# EAGLE library part MAB (library omcConnector)
PCB DIN 5 Pin Socket Current Rating: 1A Dielectric Strength: AC 1000V/MIN. R.M.S. Insulator Resistance: 5000MΩ MIN. AT 500V DC Contact Resistance: 8mΩ MAX Operation Temperature: -55°C TO +105°C Datasheet: Reichelt <https://cdn-reichelt.de/documents/datenblatt/C160/DS_MAPBMS5.pdf>
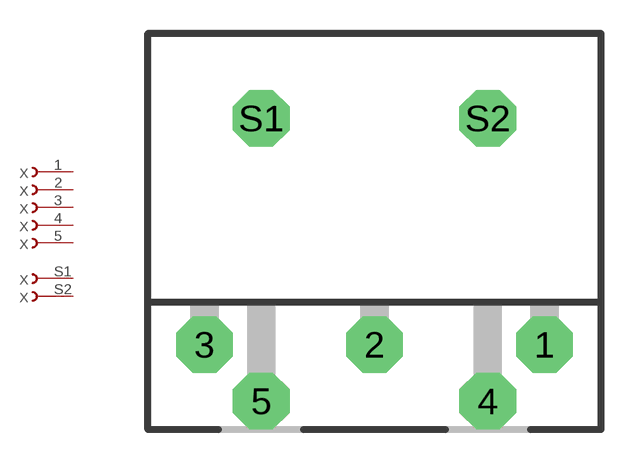
[diagram p8: symbol with the pads of DIN5P; footprint DIN5P]

Designator prefix X; gates G$1=PHDR G$2=PHDR G$3=PHDR G$4=PHDR G$5=PHDR G$6=PHDR G$7=PHDR

## MAB-5S (DIST#REICHELT: MABPM 5S; VALUE: DIN5)  [DIN5P]
1  G$1:P$1
2  G$2:P$1
3  G$3:P$1
4  G$4:P$1
5  G$5:P$1
S1  G$6:P$1
S2  G$7:P$1

## Footprint DIN5P (pad centres in mm)
DIN Plug 5P 180° Tecnology: THT
drill 1.4 pad 2.54 octagon: 1 17.78,3.81; 2 10.16,3.81; 3 2.54,3.81; 4 15.24,1.27; 5 5.08,1.27; S1 5.08,13.97; S2 15.24,13.97